# Altium integrated library BMP388.IntLib: 1 symbol
Pins are listed as number, name and electrical type; pins without a type are passive.

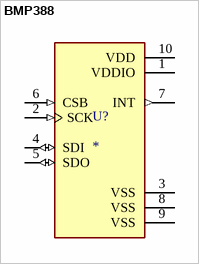
[diagram p0: symbol BMP388]

## BMP388
designator U?
P-Sensor SPI I2C 1, 25 Bar SMD; MP: BMP388; Package: None; Price: None; Value: *; Availability: Unavailable
footprint PQFN50P200X200X80-10N
pins: 1 VDDIO (power), 2 SCK (in), 3 VSS (power), 4 SDI (io), 5 SDO (io), 6 CSB (in), 7 INT (out), 8 VSS (power), 9 VSS (power), 10 VDD (power)